# Altium footprint library RFM90CW.PcbLib: 1 footprints
Each footprint in its own frame and in the unit in brackets; x right, y up, seen from the top. Pads: shape width x height; smd on the part's side, far side on the other; paste and mask are expansions set on the pad; w line width, h text height; cw(c..) or ccw(c..) is an arc to the next point about the centre after c.
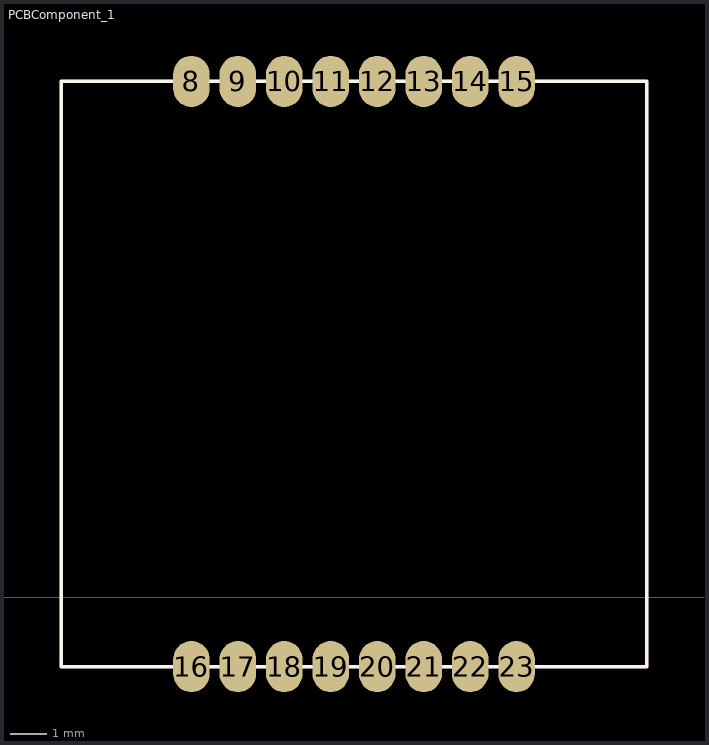
[diagram p0: the footprint, top view; thin cyan lines are the x and y axes]

## PCBComponent_1 [mm]
pads (16):
  oval 1x1.4 smd: 8(7.185,14.106) 9(8.455,14.106) 10(9.725,14.106) 11(10.995,14.106) 12(12.265,14.106) 13(13.535,14.106) 14(14.805,14.106) 15(16.075,14.106) 16(7.185,-1.894) 17(8.455,-1.894) 18(9.725,-1.894) 19(10.995,-1.894) 20(12.265,-1.894) 21(13.535,-1.894) 22(14.805,-1.894) 23(16.075,-1.894)
Top Overlay keep-out:
  lines w0.1: 3.63,-1.894 19.63,-1.894 19.63,14.106 3.63,14.106 3.63,-1.894